# EAGLE library part MSTBV8 (library con-phoenix-508)
PHOENIX
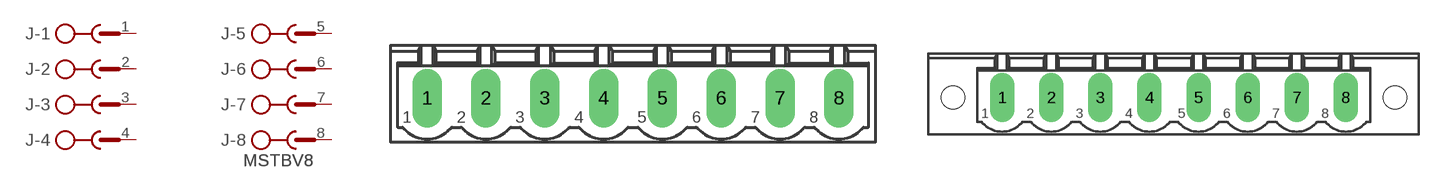
[diagram p57: symbol with the pads of MSTBV8; footprints MSTBV8, MSTBV8-GF]

Designator prefix J; gates -1=SK -2=SK -3=SK -4=SK -5=SK -6=SK -7=SK -8=SKV

## MSTBV8  [MSTBV8]
1  -1:1  pas
2  -2:1  pas
3  -3:1  pas
4  -4:1  pas
5  -5:1  pas
6  -6:1  pas
7  -7:1  pas
8  -8:1  pas

## MSTBV8-GF  [MSTBV8-GF]
Pads as for MSTBV8

## Footprint MSTBV8 (pad centres in mm)
PHOENIX
drill 1.397 pad 2.54 long: 1 -17.78,0; 2 -12.7,0; 3 -7.62,0; 4 -2.54,0; 5 2.54,0; 6 7.62,0; 7 12.7,0; 8 17.78,0

## Footprint MSTBV8-GF (pad centres in mm)
PHOENIX
drill 1.397 pad 2.54 long: 1 -17.78,0; 2 -12.7,0; 3 -7.62,0; 4 -2.54,0; 5 2.54,0; 6 7.62,0; 7 12.7,0; 8 17.78,0
hole 2.4 at -22.86,0
hole 2.4 at 22.86,0